# Altium schematic symbol library ABM11.SCHLIB: 2 symbols
Pins are listed as number, name and electrical type; pins without a type are passive.

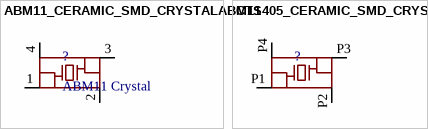
[diagram p0: symbols ABM11_CERAMIC_SMD_CRYSTALABM11 to CTS405_CERAMIC_SMD_CRYSTAL]

## ABM11_CERAMIC_SMD_CRYSTALABM11
designator ?, comment ABM11 Crystal
footprint ABM11_CERAMIC-SMD-CRYSTAL
pins: 1 P$1, 2 GROUND2, 3 P3, 4 GROUND4

## CTS405_CERAMIC_SMD_CRYSTAL
designator ?
footprint CTS405_CERAMIC-SMD-CRYSTAL
pins: P1 P$1, P2 GROUND2, P3 P$3, P4 GROUND4